# EAGLE library part 61301821821 (library Eagle_BOARD-TO-BOARD_CONNECTORS (rev18b))
WR-PHD 2.54mm Dual Socket Header, 18 Pins =>Code : Con_BTB_SHD_2.54_2_61301821821 <http://katalog.we-online.de/media/images/eican/Con_BTB_SHD_2.54_2_6130xx21821_pf2.jpg> Details see: http://katalog.we-online.de/en/em/613_0xx_218_21 Created 2014-05-29, Karrer Zheng 2014 (C) Würth Elektronik
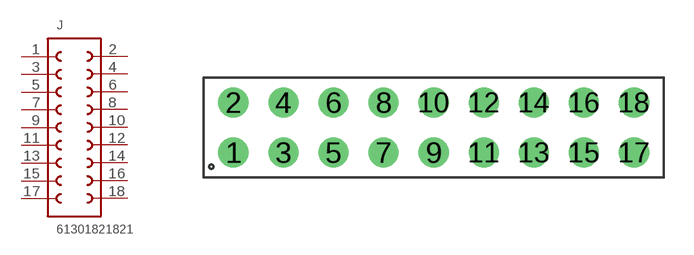
[diagram p112: symbol with the pads of 61301821821; footprint 61301821821]

Designator prefix J

## 61301821821  [61301821821]
1  1  pas
2  18  pas
3  2  pas
4  17  pas
5  3  pas
6  16  pas
7  4  pas
8  15  pas
9  5  pas
10  14  pas
11  6  pas
12  13  pas
13  7  pas
14  12  pas
15  8  pas
16  11  pas
17  9  pas
18  10  pas

## Footprint 61301821821 (pad centres in mm)
WR-PHD 2.54mm Dual Socket Header, 18 Pins
drill 1.02: 1 -10.16,-1.27; 2 -10.16,1.27; 3 -7.62,-1.27; 4 -7.62,1.27; 5 -5.08,-1.27; 6 -5.08,1.27; 7 -2.54,-1.27; 8 -2.54,1.27; 9 0,-1.27; 10 0,1.27; 11 2.54,-1.27; 12 2.54,1.27; 13 5.08,-1.27; 14 5.08,1.27; 15 7.62,-1.27; 16 7.62,1.27; 17 10.16,-1.27; 18 10.16,1.27